# Altium schematic symbol library 687 3xx 124 422.SchLib: 17 symbols
Pins are listed as number, name and electrical type; pins without a type are passive.

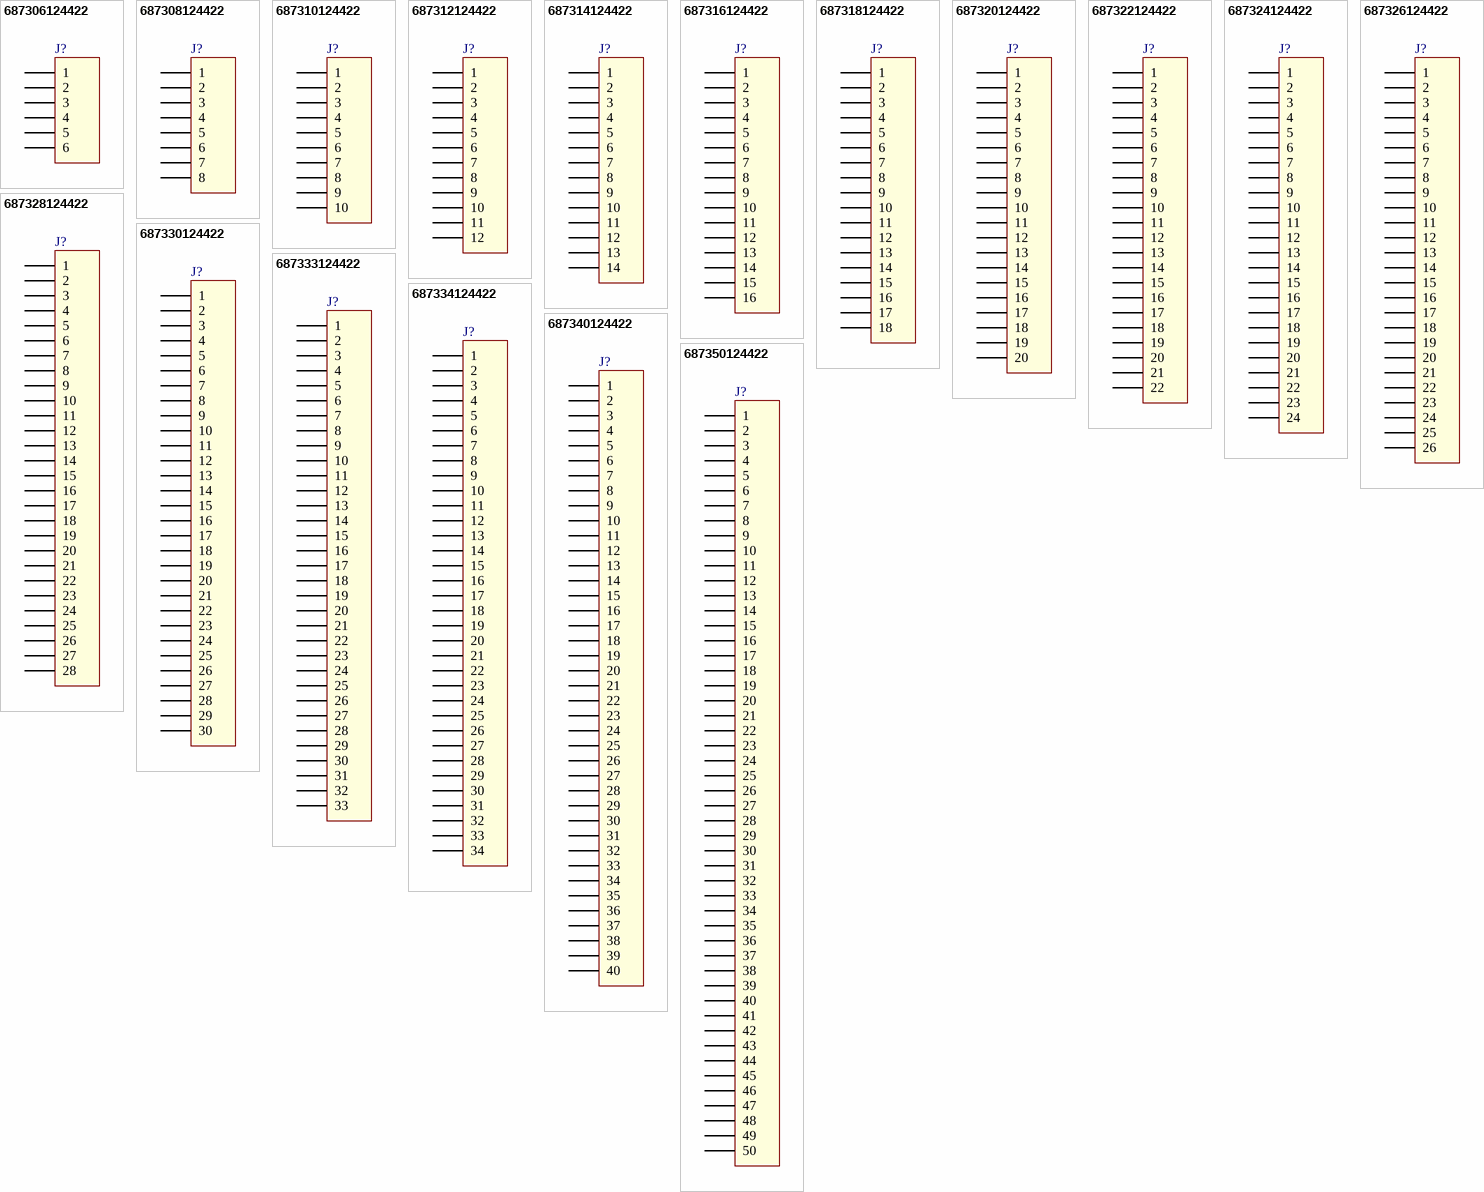
[diagram p0: symbols 687306124422 to 687350124422]

## 687306124422
designator J?
0.50 mm SMT ZIF Vertical WR-FPC, 6 pins; Part Number: 687306124422; Pitch: 0.5 mm; Pin Number: 6; ComponentLink1Description: Manufacturer; ComponentLink1URL: http://www.we-online.de; ComponentLink2Description: Datasheet; ComponentLink2URL: http://katalog.we-online.com/em/datasheet/6873xx124422.pdf; Published Date: April 2017; Publisher: Wurth Elektronik
footprint 687306124422 (0.50 mm SMT ZIF Vertical, 6p)
pins: 1, 2, 3, 4, 5, 6

## 687308124422
designator J?
0.50 mm SMT ZIF Vertical WR-FPC, 8 pins; Part Number: 687308124422; Pitch: 0.5 mm; Pin Number: 8; ComponentLink1Description: Manufacturer; ComponentLink1URL: http://www.we-online.de; ComponentLink2Description: Datasheet; ComponentLink2URL: http://katalog.we-online.com/em/datasheet/6873xx124422.pdf; Published Date: April 2017; Publisher: Wurth Elektronik
footprint 687308124422 (0.50 mm SMT ZIF Vertical, 8p)
pins: 1, 2, 3, 4, 5, 6, 7, 8

## 687310124422
designator J?
0.50 mm SMT ZIF Vertical WR-FPC, 10 pins; Part Number: 687310124422; Pitch: 0.5 mm; Pin Number: 10; ComponentLink1Description: Manufacturer; ComponentLink1URL: http://www.we-online.de; ComponentLink2Description: Datasheet; ComponentLink2URL: http://katalog.we-online.com/em/datasheet/6873xx124422.pdf; Published Date: April 2017; Publisher: Wurth Elektronik
footprint 687310124422 (0.50 mm SMT ZIF Vertical, 10p)
pins: 1, 2, 3, 4, 5, 6, 7, 8, 9, 10

## 687312124422
designator J?
0.50 mm SMT ZIF Vertical WR-FPC, 12 pins; Part Number: 687312124422; Pitch: 0.5 mm; Pin Number: 12; ComponentLink1Description: Manufacturer; ComponentLink1URL: http://www.we-online.de; ComponentLink2Description: Datasheet; ComponentLink2URL: http://katalog.we-online.com/em/datasheet/6873xx124422.pdf; Published Date: April 2017; Publisher: Wurth Elektronik
footprint 687312124422 (0.50 mm SMT ZIF Vertical, 12p)
pins: 1, 2, 3, 4, 5, 6, 7, 8, 9, 10, 11, 12

## 687314124422
designator J?
0.50 mm SMT ZIF Vertical WR-FPC, 14 pins; Part Number: 687314124422; Pitch: 0.5 mm; Pin Number: 14; ComponentLink1Description: Manufacturer; ComponentLink1URL: http://www.we-online.de; ComponentLink2Description: Datasheet; ComponentLink2URL: http://katalog.we-online.com/em/datasheet/6873xx124422.pdf; Published Date: April 2017; Publisher: Wurth Elektronik
footprint 687314124422 (0.50 mm SMT ZIF Vertical, 14p)
pins: 1, 2, 3, 4, 5, 6, 7, 8, 9, 10, 11, 12, 13, 14

## 687316124422
designator J?
0.50 mm SMT ZIF Vertical WR-FPC, 16 pins; Part Number: 687316124422; Pitch: 0.5 mm; Pin Number: 16; ComponentLink1Description: Manufacturer; ComponentLink1URL: http://www.we-online.de; ComponentLink2Description: Datasheet; ComponentLink2URL: http://katalog.we-online.com/em/datasheet/6873xx124422.pdf; Published Date: April 2017; Publisher: Wurth Elektronik
footprint 687316124422 (0.50 mm SMT ZIF Vertical, 16p)
pins: 1, 2, 3, 4, 5, 6, 7, 8, 9, 10, 11, 12, 13, 14, 15, 16

## 687318124422
designator J?
0.50 mm SMT ZIF Vertical WR-FPC, 18 pins; Part Number: 687318124422; Pitch: 0.5 mm; Pin Number: 18; ComponentLink1Description: Manufacturer; ComponentLink1URL: http://www.we-online.de; ComponentLink2Description: Datasheet; ComponentLink2URL: http://katalog.we-online.com/em/datasheet/6873xx124422.pdf; Published Date: April 2017; Publisher: Wurth Elektronik
footprint 687318124422 (0.50 mm SMT ZIF Vertical, 18p)
pins: 1, 2, 3, 4, 5, 6, 7, 8, 9, 10, 11, 12, 13, 14, 15, 16, 17, 18

## 687320124422
designator J?
0.50 mm SMT ZIF Vertical WR-FPC, 20 pins; Part Number: 687320124422; Pitch: 0.5 mm; Pin Number: 20; ComponentLink1Description: Manufacturer; ComponentLink1URL: http://www.we-online.de; ComponentLink2Description: Datasheet; ComponentLink2URL: http://katalog.we-online.com/em/datasheet/6873xx124422.pdf; Published Date: April 2017; Publisher: Wurth Elektronik
footprint 687320124422 (0.50 mm SMT ZIF Vertical, 20p)
pins: 1, 2, 3, 4, 5, 6, 7, 8, 9, 10, 11, 12, 13, 14, 15, 16, 17, 18, 19, 20

## 687322124422
designator J?
0.50 mm SMT ZIF Vertical WR-FPC, 22 pins; Part Number: 687322124422; Pitch: 0.5 mm; Pin Number: 22; ComponentLink1Description: Manufacturer; ComponentLink1URL: http://www.we-online.de; ComponentLink2Description: Datasheet; ComponentLink2URL: http://katalog.we-online.com/em/datasheet/6873xx124422.pdf; Published Date: April 2017; Publisher: Wurth Elektronik
footprint 687322124422 (0.50 mm SMT ZIF Vertical, 22p)
pins: 1, 2, 3, 4, 5, 6, 7, 8, 9, 10, 11, 12, 13, 14, 15, 16, 17, 18, 19, 20, 21, 22

## 687324124422
designator J?
0.50 mm SMT ZIF Vertical WR-FPC, 24 pins; Part Number: 687324124422; Pitch: 0.5 mm; Pin Number: 24; ComponentLink1Description: Manufacturer; ComponentLink1URL: http://www.we-online.de; ComponentLink2Description: Datasheet; ComponentLink2URL: http://katalog.we-online.com/em/datasheet/6873xx124422.pdf; Published Date: April 2017; Publisher: Wurth Elektronik
footprint 687324124422 (0.50 mm SMT ZIF Vertical, 24p)
pins: 1, 2, 3, 4, 5, 6, 7, 8, 9, 10, 11, 12, 13, 14, 15, 16, 17, 18, 19, 20, 21, 22, 23, 24

## 687326124422
designator J?
0.50 mm SMT ZIF Vertical WR-FPC, 26 pins; Part Number: 687326124422; Pitch: 0.5 mm; Pin Number: 26; ComponentLink1Description: Manufacturer; ComponentLink1URL: http://www.we-online.de; ComponentLink2Description: Datasheet; ComponentLink2URL: http://katalog.we-online.com/em/datasheet/6873xx124422.pdf; Published Date: April 2017; Publisher: Wurth Elektronik
footprint 687326124422 (0.50 mm SMT ZIF Vertical, 26p)
pins: 1, 2, 3, 4, 5, 6, 7, 8, 9, 10, 11, 12, 13, 14, 15, 16, 17, 18, 19, 20, 21, 22, 23, 24, 25, 26

## 687328124422
designator J?
0.50 mm SMT ZIF Vertical WR-FPC, 28 pins; Part Number: 687328124422; Pitch: 0.5 mm; Pin Number: 28; ComponentLink1Description: Manufacturer; ComponentLink1URL: http://www.we-online.de; ComponentLink2Description: Datasheet; ComponentLink2URL: http://katalog.we-online.com/em/datasheet/6873xx124422.pdf; Published Date: April 2017; Publisher: Wurth Elektronik
footprint 687328124422 (0.50 mm SMT ZIF Vertical, 28p)
pins: 1, 2, 3, 4, 5, 6, 7, 8, 9, 10, 11, 12, 13, 14, 15, 16, 17, 18, 19, 20, 21, 22, 23, 24, 25, 26, 27, 28

## 687330124422
designator J?
0.50 mm SMT ZIF Vertical WR-FPC, 30 pins; Part Number: 687330124422; Pitch: 0.5 mm; Pin Number: 30; ComponentLink1Description: Manufacturer; ComponentLink1URL: http://www.we-online.de; ComponentLink2Description: Datasheet; ComponentLink2URL: http://katalog.we-online.com/em/datasheet/6873xx124422.pdf; Published Date: April 2017; Publisher: Wurth Elektronik
footprint 687330124422 (0.50 mm SMT ZIF Vertical, 30p)
pins: 1, 2, 3, 4, 5, 6, 7, 8, 9, 10, 11, 12, 13, 14, 15, 16, 17, 18, 19, 20, 21, 22, 23, 24, 25, 26, 27, 28, 29, 30

## 687333124422
designator J?
0.50 mm SMT ZIF Vertical WR-FPC, 33 pins; Part Number: 687333124422; Pitch: 0.5 mm; Pin Number: 33; ComponentLink1Description: Manufacturer; ComponentLink1URL: http://www.we-online.de; ComponentLink2Description: Datasheet; ComponentLink2URL: http://katalog.we-online.com/em/datasheet/6873xx124422.pdf; Published Date: April 2017; Publisher: Wurth Elektronik
footprint 687333124422 (0.50 mm SMT ZIF Vertical, 33p)
pins: 1, 2, 3, 4, 5, 6, 7, 8, 9, 10, 11, 12, 13, 14, 15, 16, 17, 18, 19, 20, 21, 22, 23, 24, 25, 26, 27, 28, 29, 30, 31, 32, 33

## 687334124422
designator J?
0.50 mm SMT ZIF Vertical WR-FPC, 34 pins; Part Number: 687334124422; Pitch: 0.5 mm; Pin Number: 34; ComponentLink1Description: Manufacturer; ComponentLink1URL: http://www.we-online.de; ComponentLink2Description: Datasheet; ComponentLink2URL: http://katalog.we-online.com/em/datasheet/6873xx124422.pdf; Published Date: April 2017; Publisher: Wurth Elektronik
footprint 687334124422 (0.50 mm SMT ZIF Vertical, 34p)
pins: 1, 2, 3, 4, 5, 6, 7, 8, 9, 10, 11, 12, 13, 14, 15, 16, 17, 18, 19, 20, 21, 22, 23, 24, 25, 26, 27, 28, 29, 30, 31, 32, 33, 34

## 687340124422
designator J?
0.50 mm SMT ZIF Vertical WR-FPC, 40 pins; Part Number: 687340124422; Pitch: 0.5 mm; Pin Number: 40; ComponentLink1Description: Manufacturer; ComponentLink1URL: http://www.we-online.de; ComponentLink2Description: Datasheet; ComponentLink2URL: http://katalog.we-online.com/em/datasheet/6873xx124422.pdf; Published Date: April 2017; Publisher: Wurth Elektronik
footprint 687340124422 (0.50 mm SMT ZIF Vertical, 40p)
pins: 1, 2, 3, 4, 5, 6, 7, 8, 9, 10, 11, 12, 13, 14, 15, 16, 17, 18, 19, 20, 21, 22, 23, 24, 25, 26, 27, 28, 29, 30, 31, 32, 33, 34, 35, 36, 37, 38, 39, 40

## 687350124422
designator J?
0.50 mm SMT ZIF Vertical WR-FPC, 50 pins; Part Number: 687350124422; Pitch: 0.5 mm; Pin Number: 50; ComponentLink1Description: Manufacturer; ComponentLink1URL: http://www.we-online.de; ComponentLink2Description: Datasheet; ComponentLink2URL: http://katalog.we-online.com/em/datasheet/6873xx124422.pdf; Published Date: April 2017; Publisher: Wurth Elektronik
footprint 687350124422 (0.50 mm SMT ZIF Vertical, 50p)
pins: 1, 2, 3, 4, 5, 6, 7, 8, 9, 10, 11, 12, 13, 14, 15, 16, 17, 18, 19, 20, 21, 22, 23, 24, 25, 26, 27, 28, 29, 30, 31, 32, 33, 34, 35, 36, 37, 38, 39, 40, 41, 42, 43, 44, 45, 46, 47, 48, 49, 50